# EAGLE library part RJ-45 (library SCX3)
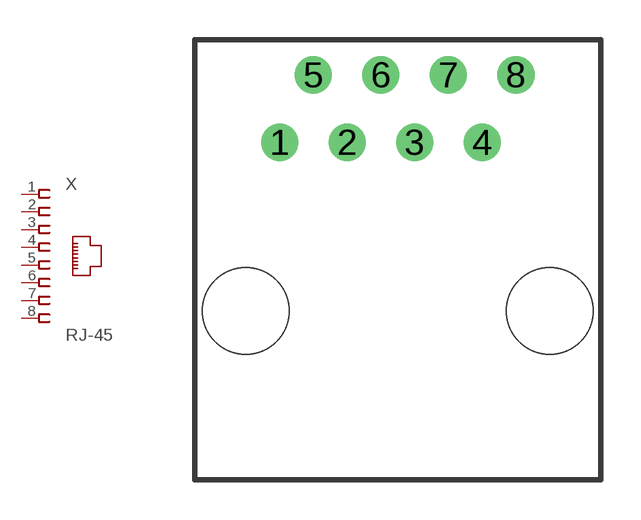
[diagram p16: symbol with the pads of RJ-45; footprint RJ-45]

Designator prefix X

## RJ-45  [RJ-45]
1  1  pas
2  2  pas
3  3  pas
4  4  pas
5  5  pas
6  6  pas
7  7  pas
8  8  pas

## Footprint RJ-45 (pad centres in mm)
RJ-45 INVERTED MODULAR JACK ASSEMBLY WITH RJ-11 KEEPOUT FEATURE Source: Data sheet <http://www.farnell.com/datasheets/73207.pdf>
drill 0.889: 1 -4.445,6.35; 2 -1.905,6.35; 3 0.635,6.35; 4 3.175,6.35; 5 -3.175,8.89; 6 -0.635,8.89; 7 1.905,8.89; 8 4.445,8.89
hole 3.251 at 5.715,0
hole 3.251 at -5.715,0